# Altium integrated library TI Data Converters Analog to Digital Converter.IntLib: 2198 symbols (part 35 of 164)
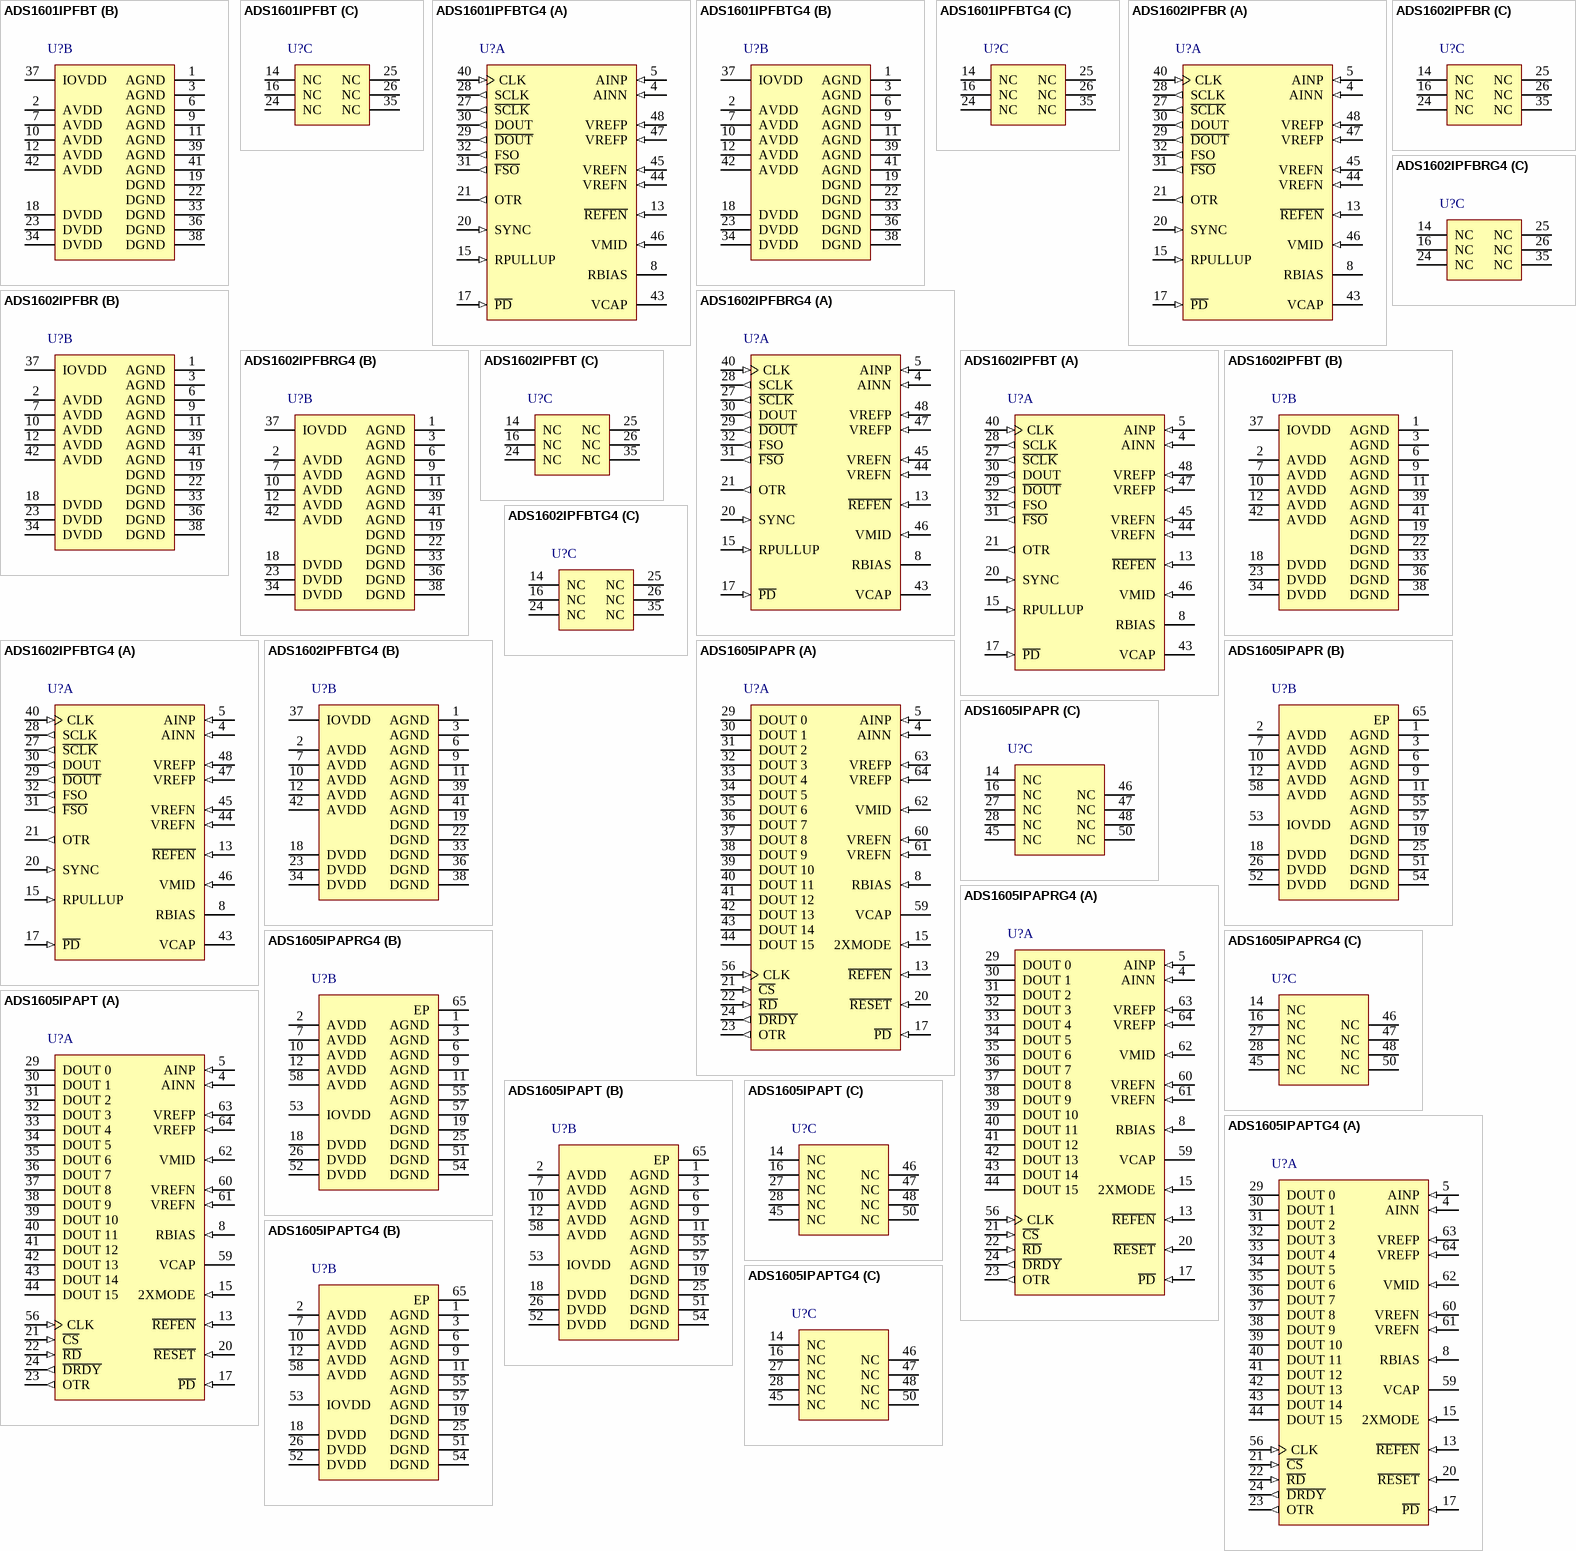
[diagram p160: symbols ADS1601IPFBT to ADS1605IPAPTG4]

## ADS1605IPAPT
designator U?
16-Bit, 5 MSPS Delta-Sigma, ADC, -40 to 85 degC, 64-pin QFP (PAP64), Green (RoHS & no Sb/Br); Manufacturer: Texas Instruments; PartNumber: ADS1605IPAPT; # Input Channels: 1; Analog Voltage AV/DD(Max)(V): 5.25; Analog Voltage AV/DD(Min)(V): 4.75; Digital Supply(Min)(V): 2.7; Interface: Parallel CMOS; Resolution(Bits): 16; Sample Rate (max)(SPS): 5M; SFDR(dB): 102; SINAD(dB): 84; SubFamily: Precision ADC (<=10MSPS); DatasheetVersion: SBAS274H; PackageVersion: 4147702/C, 08/2003; PackageReference: PAP64-5900X5900TP; PackageDescription: 64-Pin PowerPAD(TM) Plastic Quad Flatpack, Body 10 x 10 mm, Pitch 0.5 mm; Supplier 1: Digi-Key; Supplier Part Number 1: ADS825EG4-ND; Architecture: Delta-Sigma; Digital Supply(Max)(V): 5.25; Eco-Plan: Green (RoHS & no Sb/Br); SNR(dB): 84; Mounting Technology: Surface Mount; Code_JEDEC: MS-026; ComponentLink1Description: Manufacturer URL; ComponentLink1URL: http://www.ti.com/; ComponentLink2Description: Datasheet; ComponentLink2URL: http://www.ti.com/general/docs/lit/getliterature.tsp?genericPartNumber=ADS1605&fileType=pdf; ComponentLink3Description: Package Specification; ComponentLink3URL: http://www.ti.com/lit/ml/mpqf071b/mpqf071b.pdf
footprint TI-PAP64-5900X5900TP_N (QFP, 64-Leads, Body 10x10mm, Pitch 0.5mm, Thermal Pad 6.5x6.5mm, IPC Medium Density)
footprint TI-PAP64-5900X5900TP_L (QFP, 64-Leads, Body 10x10mm, Pitch 0.5mm, Thermal Pad 6.5x6.5mm, IPC High Density)
footprint TI-PAP64-5900X5900TP_M (QFP, 64-Leads, Body 10x10mm, Pitch 0.5mm, Thermal Pad 6.5x6.5mm, IPC Low Density)
part A pins: 4 AINN (in) "Negative analog input", 5 AINP (in) "Positive analog input", 8 RBIAS (in) "Terminal for external analog bias setting resistor", 13 ~{REFEN} (in) "Internal reference enable. Internal pull-down resistor of 170kohm to DGND.", 15 2XMODE (in) "Digital filter decimation rate. Internal pull-down resistor of 170kohm to DGND.", 17 ~{PD} (in) "Power down all circuitry. Internal pull-up resistor of 170kohm to DGND.", 20 ~{RESET} (in) "Reset digital filter", 21 ~{CS} (in) "Chip select", 22 ~{RD} (in) "Read enable", 23 OTR (out) "Analog inputs out of range", 24 ~{DRDY} (out) "Data ready on falling edge", 29 DOUT 0 (hiz) "Data output. DOUT[15] is the MSB and DOUT[0] is the LSB.", 30 DOUT 1 (hiz) "Data output. DOUT[15] is the MSB and DOUT[0] is the LSB.", 31 DOUT 2 (hiz) "Data output. DOUT[15] is the MSB and DOUT[0] is the LSB.", 32 DOUT 3 (hiz) "Data output. DOUT[15] is the MSB and DOUT[0] is the LSB.", 33 DOUT 4 (hiz) "Data output. DOUT[15] is the MSB and DOUT[0] is the LSB.", 34 DOUT 5 (hiz) "Data output. DOUT[15] is the MSB and DOUT[0] is the LSB.", 35 DOUT 6 (hiz) "Data output. DOUT[15] is the MSB and DOUT[0] is the LSB.", 36 DOUT 7 (hiz) "Data output. DOUT[15] is the MSB and DOUT[0] is the LSB.", 37 DOUT 8 (hiz) "Data output. DOUT[15] is the MSB and DOUT[0] is the LSB.", 38 DOUT 9 (hiz) "Data output. DOUT[15] is the MSB and DOUT[0] is the LSB.", 39 DOUT 10 (hiz) "Data output. DOUT[15] is the MSB and DOUT[0] is the LSB.", 40 DOUT 11 (hiz) "Data output. DOUT[15] is the MSB and DOUT[0] is the LSB.", 41 DOUT 12 (hiz) "Data output. DOUT[15] is the MSB and DOUT[0] is the LSB.", 42 DOUT 13 (hiz) "Data output. DOUT[15] is the MSB and DOUT[0] is the LSB.", 43 DOUT 14 (hiz) "Data output. DOUT[15] is the MSB and DOUT[0] is the LSB.", 44 DOUT 15 (hiz) "Data output. DOUT[15] is the MSB and DOUT[0] is the LSB.", 56 CLK (in) "Clock input", 59 VCAP "Terminal for external bypass capacitor connection to internal bias voltage", 60 VREFN (in) "Negative reference voltage", 61 VREFN (in) "Negative reference voltage", 62 VMID (in) "Midpoint voltage", 63 VREFP (in) "Positive reference voltage", 64 VREFP (in) "Positive reference voltage"
part B pins: 1 AGND (power) "Analog ground", 2 AVDD (power) "Analog supply", 3 AGND (power) "Analog ground", 6 AGND (power) "Analog ground", 7 AVDD (power) "Analog supply", 9 AGND (power) "Analog ground", 10 AVDD (power) "Analog supply", 11 AGND (power) "Analog ground", 12 AVDD (power) "Analog supply", 18 DVDD (power) "Digital supply", 19 DGND (power) "Digital ground", 25 DGND (power) "Digital ground", 26 DVDD (power) "Digital supply", 51 DGND (power) "Digital ground", 52 DVDD (power) "Digital supply", 53 IOVDD (power) "Digital I/O supply", 54 DGND (power) "Digital ground", 55 AGND (power) "Analog ground", 57 AGND (power) "Analog ground", 58 AVDD (power) "Analog supply", 65 EP (power)
part C pins: 14 NC "These terminals are not connected within the ADS1605/6 and must be left unconnected.", 16 NC "These terminals are not connected within the ADS1605/6 and must be left unconnected.", 27 NC "These terminals are not connected within the ADS1605/6 and must be left unconnected.", 28 NC "These terminals are not connected within the ADS1605/6 and must be left unconnected.", 45 NC "These terminals are not connected within the ADS1605/6 and must be left unconnected.", 46 NC "These terminals must be left disconnected on the ADS1605.", 47 NC "These terminals must be left disconnected on the ADS1605.", 48 NC "These terminals must be left disconnected on the ADS1605.", 50 NC "These terminals are not connected within the ADS1605/6 and must be left unconnected."

## ADS1605IPAPTG4
designator U?
16-Bit, 5 MSPS Delta-Sigma, ADC, -40 to 85 degC, 64-pin QFP (PAP64), Green (RoHS & no Sb/Br); Manufacturer: Texas Instruments; PartNumber: ADS1605IPAPTG4; # Input Channels: 1; Analog Voltage AV/DD(Max)(V): 5.25; Analog Voltage AV/DD(Min)(V): 4.75; Digital Supply(Min)(V): 2.7; Interface: Parallel CMOS; Resolution(Bits): 16; Sample Rate (max)(SPS): 5M; SFDR(dB): 102; SINAD(dB): 84; SubFamily: Precision ADC (<=10MSPS); DatasheetVersion: SBAS274H; PackageVersion: 4147702/C, 08/2003; PackageReference: PAP64-5900X5900TP; PackageDescription: 64-Pin PowerPAD(TM) Plastic Quad Flatpack, Body 10 x 10 mm, Pitch 0.5 mm; Supplier 1: Digi-Key; Supplier Part Number 1: 296-18673-5-ND; Architecture: Delta-Sigma; Digital Supply(Max)(V): 5.25; Eco-Plan: Green (RoHS & no Sb/Br); SNR(dB): 84; Mounting Technology: Surface Mount; Code_JEDEC: MS-026; ComponentLink1Description: Manufacturer URL; ComponentLink1URL: http://www.ti.com/; ComponentLink2Description: Datasheet; ComponentLink2URL: http://www.ti.com/general/docs/lit/getliterature.tsp?genericPartNumber=ADS1605&fileType=pdf; ComponentLink3Description: Package Specification; ComponentLink3URL: http://www.ti.com/lit/ml/mpqf071b/mpqf071b.pdf
footprint TI-PAP64-5900X5900TP_N (QFP, 64-Leads, Body 10x10mm, Pitch 0.5mm, Thermal Pad 6.5x6.5mm, IPC Medium Density)
footprint TI-PAP64-5900X5900TP_L (QFP, 64-Leads, Body 10x10mm, Pitch 0.5mm, Thermal Pad 6.5x6.5mm, IPC High Density)
footprint TI-PAP64-5900X5900TP_M (QFP, 64-Leads, Body 10x10mm, Pitch 0.5mm, Thermal Pad 6.5x6.5mm, IPC Low Density)
part A pins: 4 AINN (in) "Negative analog input", 5 AINP (in) "Positive analog input", 8 RBIAS (in) "Terminal for external analog bias setting resistor", 13 ~{REFEN} (in) "Internal reference enable. Internal pull-down resistor of 170kohm to DGND.", 15 2XMODE (in) "Digital filter decimation rate. Internal pull-down resistor of 170kohm to DGND.", 17 ~{PD} (in) "Power down all circuitry. Internal pull-up resistor of 170kohm to DGND.", 20 ~{RESET} (in) "Reset digital filter", 21 ~{CS} (in) "Chip select", 22 ~{RD} (in) "Read enable", 23 OTR (out) "Analog inputs out of range", 24 ~{DRDY} (out) "Data ready on falling edge", 29 DOUT 0 (hiz) "Data output. DOUT[15] is the MSB and DOUT[0] is the LSB.", 30 DOUT 1 (hiz) "Data output. DOUT[15] is the MSB and DOUT[0] is the LSB.", 31 DOUT 2 (hiz) "Data output. DOUT[15] is the MSB and DOUT[0] is the LSB.", 32 DOUT 3 (hiz) "Data output. DOUT[15] is the MSB and DOUT[0] is the LSB.", 33 DOUT 4 (hiz) "Data output. DOUT[15] is the MSB and DOUT[0] is the LSB.", 34 DOUT 5 (hiz) "Data output. DOUT[15] is the MSB and DOUT[0] is the LSB.", 35 DOUT 6 (hiz) "Data output. DOUT[15] is the MSB and DOUT[0] is the LSB.", 36 DOUT 7 (hiz) "Data output. DOUT[15] is the MSB and DOUT[0] is the LSB.", 37 DOUT 8 (hiz) "Data output. DOUT[15] is the MSB and DOUT[0] is the LSB.", 38 DOUT 9 (hiz) "Data output. DOUT[15] is the MSB and DOUT[0] is the LSB.", 39 DOUT 10 (hiz) "Data output. DOUT[15] is the MSB and DOUT[0] is the LSB.", 40 DOUT 11 (hiz) "Data output. DOUT[15] is the MSB and DOUT[0] is the LSB.", 41 DOUT 12 (hiz) "Data output. DOUT[15] is the MSB and DOUT[0] is the LSB.", 42 DOUT 13 (hiz) "Data output. DOUT[15] is the MSB and DOUT[0] is the LSB.", 43 DOUT 14 (hiz) "Data output. DOUT[15] is the MSB and DOUT[0] is the LSB.", 44 DOUT 15 (hiz) "Data output. DOUT[15] is the MSB and DOUT[0] is the LSB.", 56 CLK (in) "Clock input", 59 VCAP "Terminal for external bypass capacitor connection to internal bias voltage", 60 VREFN (in) "Negative reference voltage", 61 VREFN (in) "Negative reference voltage", 62 VMID (in) "Midpoint voltage", 63 VREFP (in) "Positive reference voltage", 64 VREFP (in) "Positive reference voltage"
part B pins: 1 AGND (power) "Analog ground", 2 AVDD (power) "Analog supply", 3 AGND (power) "Analog ground", 6 AGND (power) "Analog ground", 7 AVDD (power) "Analog supply", 9 AGND (power) "Analog ground", 10 AVDD (power) "Analog supply", 11 AGND (power) "Analog ground", 12 AVDD (power) "Analog supply", 18 DVDD (power) "Digital supply", 19 DGND (power) "Digital ground", 25 DGND (power) "Digital ground", 26 DVDD (power) "Digital supply", 51 DGND (power) "Digital ground", 52 DVDD (power) "Digital supply", 53 IOVDD (power) "Digital I/O supply", 54 DGND (power) "Digital ground", 55 AGND (power) "Analog ground", 57 AGND (power) "Analog ground", 58 AVDD (power) "Analog supply", 65 EP (power)
part C pins: 14 NC "These terminals are not connected within the ADS1605/6 and must be left unconnected.", 16 NC "These terminals are not connected within the ADS1605/6 and must be left unconnected.", 27 NC "These terminals are not connected within the ADS1605/6 and must be left unconnected.", 28 NC "These terminals are not connected within the ADS1605/6 and must be left unconnected.", 45 NC "These terminals are not connected within the ADS1605/6 and must be left unconnected.", 46 NC "These terminals must be left disconnected on the ADS1605.", 47 NC "These terminals must be left disconnected on the ADS1605.", 48 NC "These terminals must be left disconnected on the ADS1605.", 50 NC "These terminals are not connected within the ADS1605/6 and must be left unconnected."

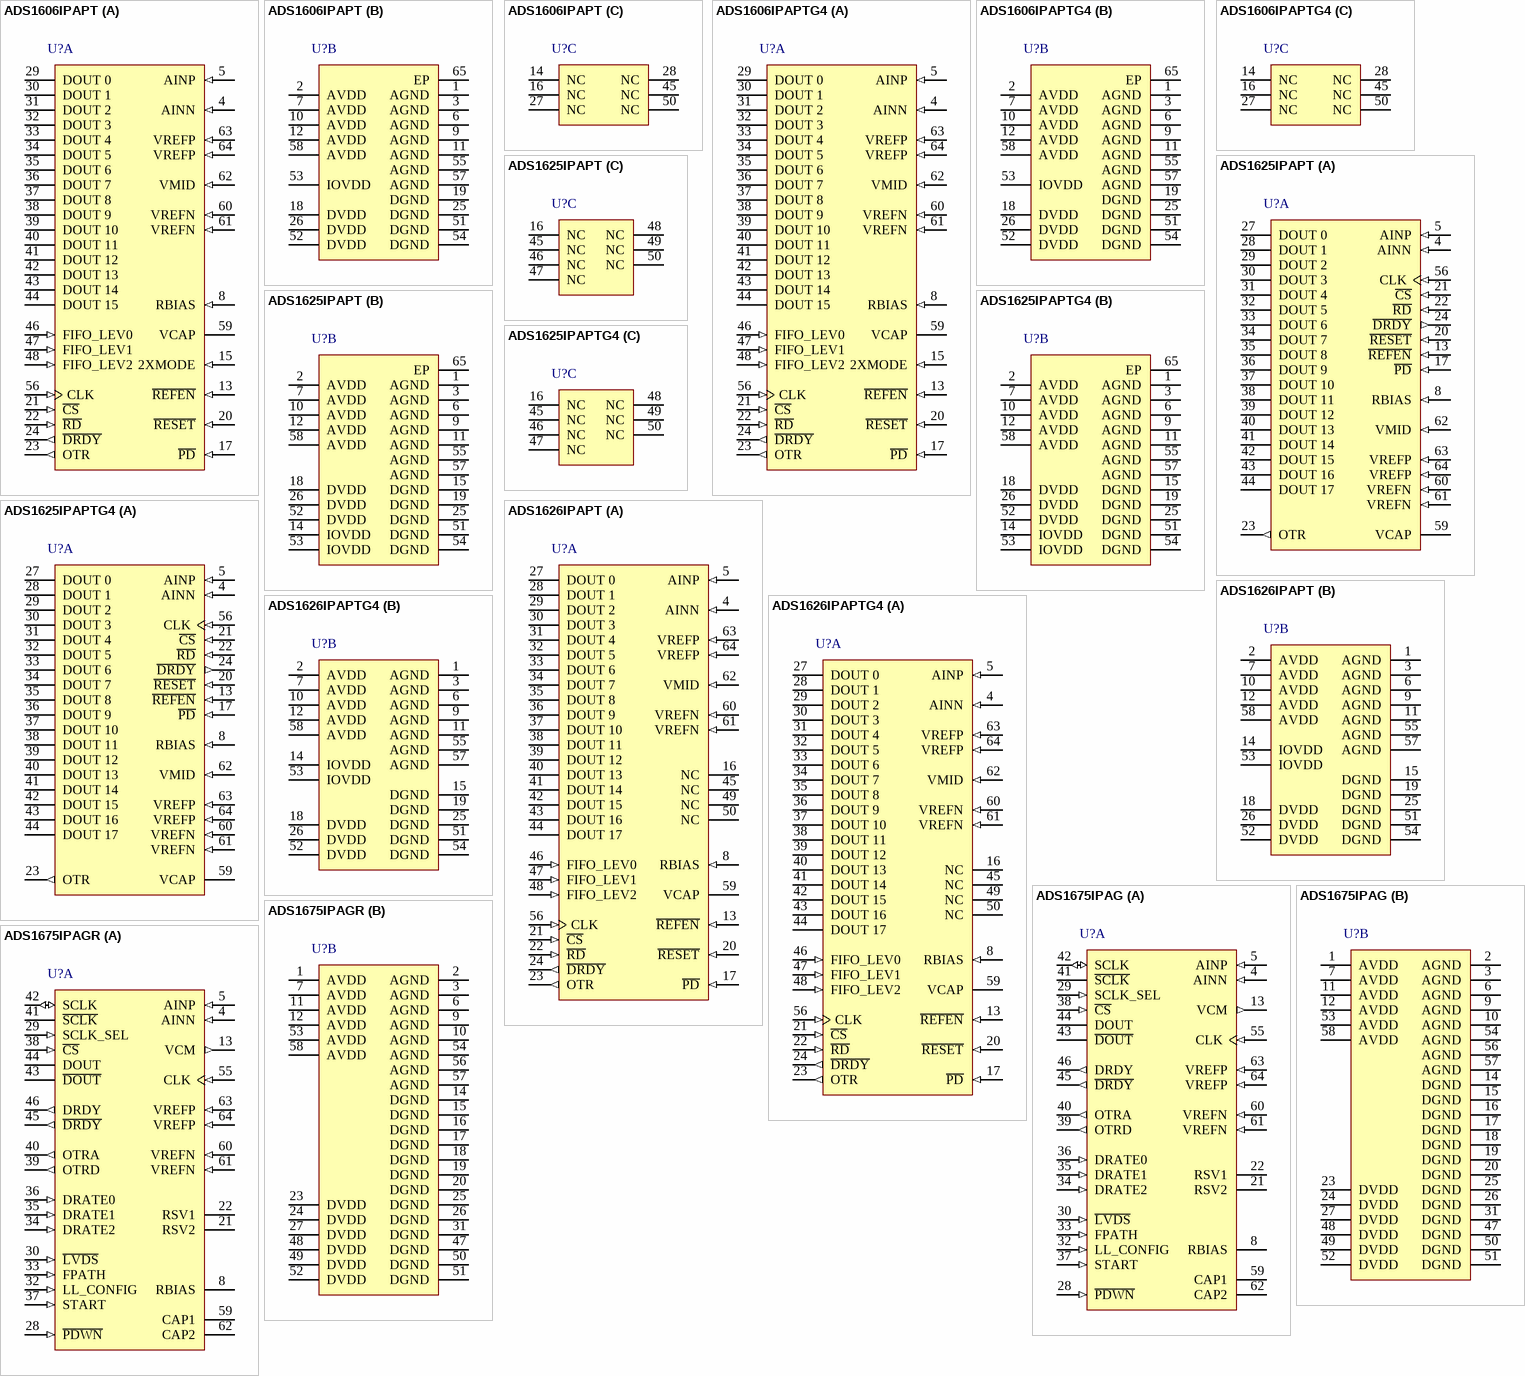
[diagram p30: symbols ADS1606IPAPT to ADS1675IPAGR]

## ADS1606IPAPT
designator U?
16-Bit, 5 MSPS Single Channel Delta-Sigma ADC with FIFO, -40 to 85 degC, 64-pin QFP (PAP64), Green (RoHS & no Sb/Br); Manufacturer: Texas Instruments; PartNumber: ADS1606IPAPT; # Input Channels: 1; Analog Voltage AV/DD(Max)(V): 5.25; Analog Voltage AV/DD(Min)(V): 4.75; Digital Supply(Min)(V): 2.7; Interface: Parallel CMOS; Resolution(Bits): 16; Sample Rate (max)(SPS): 5M; SFDR(dB): 96; SINAD(dB): 86; SNR(dB): 88; SubFamily: Precision ADC (<=10MSPS); DatasheetVersion: SBAS274H; PackageVersion: 4147702/C, 08/2003; PackageReference: PAP64-5900X5900TP; PackageDescription: 64-Pin PowerPAD(TM) Plastic Quad Flatpack, Body 10 x 10 mm, Pitch 0.5 mm; Supplier 1: Digi-Key; Supplier Part Number 1: ADS1234IPWG4-ND; Architecture: Delta-Sigma; Digital Supply(Max)(V): 5.25; Eco-Plan: Green (RoHS & no Sb/Br); Mounting Technology: Surface Mount; Code_JEDEC: MS-026; ComponentLink1Description: Manufacturer URL; ComponentLink1URL: http://www.ti.com/; ComponentLink2Description: Datasheet; ComponentLink2URL: http://www.ti.com/general/docs/lit/getliterature.tsp?genericPartNumber=ADS1606&fileType=pdf; ComponentLink3Description: Package Specification; ComponentLink3URL: http://www.ti.com/lit/ml/mpqf071b/mpqf071b.pdf
footprint TI-PAP64-5900X5900TP_N (QFP, 64-Leads, Body 10x10mm, Pitch 0.5mm, Thermal Pad 6.5x6.5mm, IPC Medium Density)
footprint TI-PAP64-5900X5900TP_L (QFP, 64-Leads, Body 10x10mm, Pitch 0.5mm, Thermal Pad 6.5x6.5mm, IPC High Density)
footprint TI-PAP64-5900X5900TP_M (QFP, 64-Leads, Body 10x10mm, Pitch 0.5mm, Thermal Pad 6.5x6.5mm, IPC Low Density)
part A pins: 4 AINN (in) "Negative analog input", 5 AINP (in) "Positive analog input", 8 RBIAS (in) "Terminal for external analog bias setting resistor", 13 ~{REFEN} (in) "Internal reference enable. Internal pull-down resistor of 170kohm to DGND.", 15 2XMODE (in) "Digital filter decimation rate. Internal pull-down resistor of 170kohm to DGND.", 17 ~{PD} (in) "Power down all circuitry. Internal pull-up resistor of 170kohm to DGND.", 20 ~{RESET} (in) "Reset digital filter", 21 ~{CS} (in) "Chip select", 22 ~{RD} (in) "Read enable", 23 OTR (out) "Analog inputs out of range", 24 ~{DRDY} (out) "Data ready on falling edge", 29 DOUT 0 (hiz) "Data output. DOUT[15] is the MSB and DOUT[0] is the LSB.", 30 DOUT 1 (hiz) "Data output. DOUT[15] is the MSB and DOUT[0] is the LSB.", 31 DOUT 2 (hiz) "Data output. DOUT[15] is the MSB and DOUT[0] is the LSB.", 32 DOUT 3 (hiz) "Data output. DOUT[15] is the MSB and DOUT[0] is the LSB.", 33 DOUT 4 (hiz) "Data output. DOUT[15] is the MSB and DOUT[0] is the LSB.", 34 DOUT 5 (hiz) "Data output. DOUT[15] is the MSB and DOUT[0] is the LSB.", 35 DOUT 6 (hiz) "Data output. DOUT[15] is the MSB and DOUT[0] is the LSB.", 36 DOUT 7 (hiz) "Data output. DOUT[15] is the MSB and DOUT[0] is the LSB.", 37 DOUT 8 (hiz) "Data output. DOUT[15] is the MSB and DOUT[0] is the LSB.", 38 DOUT 9 (hiz) "Data output. DOUT[15] is the MSB and DOUT[0] is the LSB.", 39 DOUT 10 (hiz) "Data output. DOUT[15] is the MSB and DOUT[0] is the LSB.", 40 DOUT 11 (hiz) "Data output. DOUT[15] is the MSB and DOUT[0] is the LSB.", 41 DOUT 12 (hiz) "Data output. DOUT[15] is the MSB and DOUT[0] is the LSB.", 42 DOUT 13 (hiz) "Data output. DOUT[15] is the MSB and DOUT[0] is the LSB.", 43 DOUT 14 (hiz) "Data output. DOUT[15] is the MSB and DOUT[0] is the LSB.", 44 DOUT 15 (hiz) "Data output. DOUT[15] is the MSB and DOUT[0] is the LSB.", 46 FIFO_LEV0 (in) "FIFO level (for the ADS1606 only). FIFO_LEV[2] is MSB.", 47 FIFO_LEV1 (in) "FIFO level (for the ADS1606 only). FIFO_LEV[2] is MSB.", 48 FIFO_LEV2 (in) "FIFO level (for the ADS1606 only). FIFO_LEV[2] is MSB.", 56 CLK (in) "Clock input", 59 VCAP "Terminal for external bypass capacitor connection to internal bias voltage", 60 VREFN (in) "Negative reference voltage", 61 VREFN (in) "Negative reference voltage", 62 VMID (in) "Midpoint voltage", 63 VREFP (in) "Positive reference voltage", 64 VREFP (in) "Positive reference voltage"
part B pins: 1 AGND (power) "Analog ground", 2 AVDD (power) "Analog supply", 3 AGND (power) "Analog ground", 6 AGND (power) "Analog ground", 7 AVDD (power) "Analog supply", 9 AGND (power) "Analog ground", 10 AVDD (power) "Analog supply", 11 AGND (power) "Analog ground", 12 AVDD (power) "Analog supply", 18 DVDD (power) "Digital supply", 19 DGND (power) "Digital ground", 25 DGND (power) "Digital ground", 26 DVDD (power) "Digital supply", 51 DGND (power) "Digital ground", 52 DVDD (power) "Digital supply", 53 IOVDD (power) "Digital I/O supply", 54 DGND (power) "Digital ground", 55 AGND (power) "Analog ground", 57 AGND (power) "Analog ground", 58 AVDD (power) "Analog supply", 65 EP (power)
part C pins: 14 NC "These terminals are not connected within the ADS1605/6 and must be left unconnected.", 16 NC "These terminals are not connected within the ADS1605/6 and must be left unconnected.", 27 NC "These terminals are not connected within the ADS1605/6 and must be left unconnected.", 28 NC "These terminals are not connected within the ADS1605/6 and must be left unconnected.", 45 NC "These terminals are not connected within the ADS1605/6 and must be left unconnected.", 50 NC "These terminals are not connected within the ADS1605/6 and must be left unconnected."

## ADS1606IPAPTG4
designator U?
16-Bit, 5 MSPS Single Channel Delta-Sigma ADC with FIFO, -40 to 85 degC, 64-pin QFP (PAP64), Green (RoHS & no Sb/Br); Manufacturer: Texas Instruments; PartNumber: ADS1606IPAPTG4; # Input Channels: 1; Analog Voltage AV/DD(Max)(V): 5.25; Analog Voltage AV/DD(Min)(V): 4.75; Digital Supply(Max)(V): 3.3; Digital Supply(Min)(V): 2.7; Interface: Parallel CMOS; Resolution(Bits): 16; Sample Rate (max)(SPS): 5M; SFDR(dB): 96; SINAD(dB): 86; SNR(dB): 88; SubFamily: Precision ADC (<=10MSPS); DatasheetVersion: SBAS274H; PackageVersion: 4147702/C, 08/2003; PackageReference: PAP64-5900X5900TP; PackageDescription: 64-Pin PowerPAD(TM) Plastic Quad Flatpack, Body 10 x 10 mm, Pitch 0.5 mm; Supplier 1: Digi-Key; Supplier Part Number 1: ADS1234IPWR-ND; Architecture: Delta-Sigma; Eco-Plan: Green (RoHS & no Sb/Br); Mounting Technology: Surface Mount; Code_JEDEC: MS-026; ComponentLink1Description: Manufacturer URL; ComponentLink1URL: http://www.ti.com/; ComponentLink2Description: Datasheet; ComponentLink2URL: http://www.ti.com/general/docs/lit/getliterature.tsp?genericPartNumber=ADS1606&fileType=pdf; ComponentLink3Description: Package Specification; ComponentLink3URL: http://www.ti.com/lit/ml/mpqf071b/mpqf071b.pdf
footprint TI-PAP64-5900X5900TP_N (QFP, 64-Leads, Body 10x10mm, Pitch 0.5mm, Thermal Pad 6.5x6.5mm, IPC Medium Density)
footprint TI-PAP64-5900X5900TP_L (QFP, 64-Leads, Body 10x10mm, Pitch 0.5mm, Thermal Pad 6.5x6.5mm, IPC High Density)
footprint TI-PAP64-5900X5900TP_M (QFP, 64-Leads, Body 10x10mm, Pitch 0.5mm, Thermal Pad 6.5x6.5mm, IPC Low Density)
part A pins: 4 AINN (in) "Negative analog input", 5 AINP (in) "Positive analog input", 8 RBIAS (in) "Terminal for external analog bias setting resistor", 13 ~{REFEN} (in) "Internal reference enable. Internal pull-down resistor of 170kohm to DGND.", 15 2XMODE (in) "Digital filter decimation rate. Internal pull-down resistor of 170kohm to DGND.", 17 ~{PD} (in) "Power down all circuitry. Internal pull-up resistor of 170kohm to DGND.", 20 ~{RESET} (in) "Reset digital filter", 21 ~{CS} (in) "Chip select", 22 ~{RD} (in) "Read enable", 23 OTR (out) "Analog inputs out of range", 24 ~{DRDY} (out) "Data ready on falling edge", 29 DOUT 0 (hiz) "Data output. DOUT[15] is the MSB and DOUT[0] is the LSB.", 30 DOUT 1 (hiz) "Data output. DOUT[15] is the MSB and DOUT[0] is the LSB.", 31 DOUT 2 (hiz) "Data output. DOUT[15] is the MSB and DOUT[0] is the LSB.", 32 DOUT 3 (hiz) "Data output. DOUT[15] is the MSB and DOUT[0] is the LSB.", 33 DOUT 4 (hiz) "Data output. DOUT[15] is the MSB and DOUT[0] is the LSB.", 34 DOUT 5 (hiz) "Data output. DOUT[15] is the MSB and DOUT[0] is the LSB.", 35 DOUT 6 (hiz) "Data output. DOUT[15] is the MSB and DOUT[0] is the LSB.", 36 DOUT 7 (hiz) "Data output. DOUT[15] is the MSB and DOUT[0] is the LSB.", 37 DOUT 8 (hiz) "Data output. DOUT[15] is the MSB and DOUT[0] is the LSB.", 38 DOUT 9 (hiz) "Data output. DOUT[15] is the MSB and DOUT[0] is the LSB.", 39 DOUT 10 (hiz) "Data output. DOUT[15] is the MSB and DOUT[0] is the LSB.", 40 DOUT 11 (hiz) "Data output. DOUT[15] is the MSB and DOUT[0] is the LSB.", 41 DOUT 12 (hiz) "Data output. DOUT[15] is the MSB and DOUT[0] is the LSB.", 42 DOUT 13 (hiz) "Data output. DOUT[15] is the MSB and DOUT[0] is the LSB.", 43 DOUT 14 (hiz) "Data output. DOUT[15] is the MSB and DOUT[0] is the LSB.", 44 DOUT 15 (hiz) "Data output. DOUT[15] is the MSB and DOUT[0] is the LSB.", 46 FIFO_LEV0 (in) "FIFO level (for the ADS1606 only). FIFO_LEV[2] is MSB.", 47 FIFO_LEV1 (in) "FIFO level (for the ADS1606 only). FIFO_LEV[2] is MSB.", 48 FIFO_LEV2 (in) "FIFO level (for the ADS1606 only). FIFO_LEV[2] is MSB.", 56 CLK (in) "Clock input", 59 VCAP "Terminal for external bypass capacitor connection to internal bias voltage", 60 VREFN (in) "Negative reference voltage", 61 VREFN (in) "Negative reference voltage", 62 VMID (in) "Midpoint voltage", 63 VREFP (in) "Positive reference voltage", 64 VREFP (in) "Positive reference voltage"
part B pins: 1 AGND (power) "Analog ground", 2 AVDD (power) "Analog supply", 3 AGND (power) "Analog ground", 6 AGND (power) "Analog ground", 7 AVDD (power) "Analog supply", 9 AGND (power) "Analog ground", 10 AVDD (power) "Analog supply", 11 AGND (power) "Analog ground", 12 AVDD (power) "Analog supply", 18 DVDD (power) "Digital supply", 19 DGND (power) "Digital ground", 25 DGND (power) "Digital ground", 26 DVDD (power) "Digital supply", 51 DGND (power) "Digital ground", 52 DVDD (power) "Digital supply", 53 IOVDD (power) "Digital I/O supply", 54 DGND (power) "Digital ground", 55 AGND (power) "Analog ground", 57 AGND (power) "Analog ground", 58 AVDD (power) "Analog supply", 65 EP (power)
part C pins: 14 NC "These terminals are not connected within the ADS1605/6 and must be left unconnected.", 16 NC "These terminals are not connected within the ADS1605/6 and must be left unconnected.", 27 NC "These terminals are not connected within the ADS1605/6 and must be left unconnected.", 28 NC "These terminals are not connected within the ADS1605/6 and must be left unconnected.", 45 NC "These terminals are not connected within the ADS1605/6 and must be left unconnected.", 50 NC "These terminals are not connected within the ADS1605/6 and must be left unconnected."

## ADS1625IPAPT
designator U?
18-Bit, 1.25 MSPS Single Channel Delta-Sigma ADC, -40 to 85 degC, 64-pin QFP (PAP64), Green (RoHS & no Sb/Br); Manufacturer: Texas Instruments; PartNumber: ADS1625IPAPT; # Input Channels: 1; Analog Voltage AV/DD(Max)(V): 5.25; Analog Voltage AV/DD(Min)(V): 4.75; Digital Supply(Min)(V): 2.7; INL(Max)(+/-LSB): 3.5; Interface: Parallel CMOS; Resolution(Bits): 18; Sample Rate (max)(SPS): 1.25M; SFDR(dB): 104; SINAD(dB): 92; SNR(dB): 93; SubFamily: Precision ADC (<=10MSPS); DatasheetVersion: SBAS280E; PackageVersion: 4147702/C, 08/2003; PackageReference: PAP64-5900X5900TP; PackageDescription: 64-Pin PowerPAD(TM) Plastic Quad Flatpack, Body 10 x 10 mm, Pitch 0.5 mm; Supplier 1: Digi-Key; Supplier Part Number 1: ADS1234IPWRG4-ND; Architecture: Delta-Sigma; Digital Supply(Max)(V): 5.25; Eco-Plan: Green (RoHS & no Sb/Br); Mounting Technology: Surface Mount; Code_JEDEC: MS-026; ComponentLink1Description: Manufacturer URL; ComponentLink1URL: http://www.ti.com/; ComponentLink2Description: Datasheet; ComponentLink2URL: http://www.ti.com/general/docs/lit/getliterature.tsp?genericPartNumber=ADS1625&fileType=pdf; ComponentLink3Description: Package Specification; ComponentLink3URL: http://www.ti.com/lit/ml/mpqf071b/mpqf071b.pdf
footprint TI-PAP64-5900X5900TP_N (QFP, 64-Leads, Body 10x10mm, Pitch 0.5mm, Thermal Pad 6.5x6.5mm, IPC Medium Density)
footprint TI-PAP64-5900X5900TP_L (QFP, 64-Leads, Body 10x10mm, Pitch 0.5mm, Thermal Pad 6.5x6.5mm, IPC High Density)
footprint TI-PAP64-5900X5900TP_M (QFP, 64-Leads, Body 10x10mm, Pitch 0.5mm, Thermal Pad 6.5x6.5mm, IPC Low Density)
part A pins: 4 AINN (in) "Negative analog input", 5 AINP (in) "Positive analog input", 8 RBIAS (in) "Terminal for external analog bias setting resistor", 13 ~{REFEN} (in) "Internal reference enable. Internal pull-down resistor of 170kohm to DGND.", 17 ~{PD} (in) "Power down all circuitry. Internal pull-up resistor of 170kohm to DGND.", 20 ~{RESET} (in) "Reset digital filter", 21 ~{CS} (in) "Chip select", 22 ~{RD} (in) "Read enable", 23 OTR (out) "Active when analog inputs are out of range", 24 ~{DRDY} (out) "Data ready on falling edge", 27 DOUT 0 (hiz) "Data output. DOUT[17] is the MSB and DOUT[0] is the LSB.", 28 DOUT 1 (hiz) "Data output. DOUT[17] is the MSB and DOUT[0] is the LSB.", 29 DOUT 2 (hiz) "Data output. DOUT[17] is the MSB and DOUT[0] is the LSB.", 30 DOUT 3 (hiz) "Data output. DOUT[17] is the MSB and DOUT[0] is the LSB.", 31 DOUT 4 (hiz) "Data output. DOUT[17] is the MSB and DOUT[0] is the LSB.", 32 DOUT 5 (hiz) "Data output. DOUT[17] is the MSB and DOUT[0] is the LSB.", 33 DOUT 6 (hiz) "Data output. DOUT[17] is the MSB and DOUT[0] is the LSB.", 34 DOUT 7 (hiz) "Data output. DOUT[17] is the MSB and DOUT[0] is the LSB.", 35 DOUT 8 (hiz) "Data output. DOUT[17] is the MSB and DOUT[0] is the LSB.", 36 DOUT 9 (hiz) "Data output. DOUT[17] is the MSB and DOUT[0] is the LSB.", 37 DOUT 10 (hiz) "Data output. DOUT[17] is the MSB and DOUT[0] is the LSB.", 38 DOUT 11 (hiz) "Data output. DOUT[17] is the MSB and DOUT[0] is the LSB.", 39 DOUT 12 (hiz) "Data output. DOUT[17] is the MSB and DOUT[0] is the LSB.", 40 DOUT 13 (hiz) "Data output. DOUT[17] is the MSB and DOUT[0] is the LSB.", 41 DOUT 14 (hiz) "Data output. DOUT[17] is the MSB and DOUT[0] is the LSB.", 42 DOUT 15 (hiz) "Data output. DOUT[17] is the MSB and DOUT[0] is the LSB.", 43 DOUT 16 (hiz) "Data output. DOUT[17] is the MSB and DOUT[0] is the LSB.", 44 DOUT 17 (hiz) "Data output. DOUT[17] is the MSB and DOUT[0] is the LSB.", 56 CLK (in) "Clock input", 59 VCAP "Terminal for external bypass capacitor connection to internal bias voltage", 60 VREFN (in) "Negative reference voltage", 61 VREFN (in) "Negative reference voltage", 62 VMID (in) "Midpoint voltage", 63 VREFP (in) "Positive reference voltage", 64 VREFP (in) "Positive reference voltage"
part B pins: 1 AGND (power) "Analog ground", 2 AVDD (power) "Analog supply", 3 AGND (power) "Analog ground", 6 AGND (power) "Analog ground", 7 AVDD (power) "Analog supply", 9 AGND (power) "Analog ground", 10 AVDD (power) "Analog supply", 11 AGND (power) "Analog ground", 12 AVDD (power) "Analog supply", 14 IOVDD (power) "Digital I/O supply", 15 DGND (power) "Digital ground", 18 DVDD (power) "Digital supply", 19 DGND (power) "Digital ground", 25 DGND (power) "Digital ground", 26 DVDD (power) "Digital supply", 51 DGND (power) "Digital ground", 52 DVDD (power) "Digital supply", 53 IOVDD (power) "Digital I/O supply", 54 DGND (power) "Digital ground", 55 AGND (power) "Analog ground", 57 AGND (power) "Analog ground", 58 AVDD (power) "Analog supply", 65 EP (power)
part C pins: 16 NC "Must be left unconnected", 45 NC "Must be left unconnected", 46 NC "These terminals must be left unconnected on the ADS1625.", 47 NC "These terminals must be left unconnected on the ADS1625.", 48 NC "These terminals must be left unconnected on the ADS1625.", 49 NC "Must be left unconnected", 50 NC "Must be left unconnected"

## ADS1625IPAPTG4
designator U?
18-Bit, 1.25 MSPS Single Channel Delta-Sigma ADC, -40 to 85 degC, 64-pin QFP (PAP64), Green (RoHS & no Sb/Br); Manufacturer: Texas Instruments; PartNumber: ADS1625IPAPTG4; # Input Channels: 1; Analog Voltage AV/DD(Max)(V): 5.25; Analog Voltage AV/DD(Min)(V): 4.75; Digital Supply(Min)(V): 2.7; INL(Max)(+/-LSB): 3.5; Interface: Parallel CMOS; Resolution(Bits): 18; Sample Rate (max)(SPS): 1.25M; SFDR(dB): 104; SINAD(dB): 92; SNR(dB): 93; SubFamily: Precision ADC (<=10MSPS); DatasheetVersion: SBAS280E; PackageVersion: 4147702/C, 08/2003; PackageReference: PAP64-5900X5900TP; PackageDescription: 64-Pin PowerPAD(TM) Plastic Quad Flatpack, Body 10 x 10 mm, Pitch 0.5 mm; Supplier 1: Digi-Key; Supplier Part Number 1: TLV5535IPWRG4Q1-ND; Architecture: Delta-Sigma; Digital Supply(Max)(V): 5.25; Eco-Plan: Green (RoHS & no Sb/Br); Mounting Technology: Surface Mount; Code_JEDEC: MS-026; ComponentLink1Description: Manufacturer URL; ComponentLink1URL: http://www.ti.com/; ComponentLink2Description: Datasheet; ComponentLink2URL: http://www.ti.com/general/docs/lit/getliterature.tsp?genericPartNumber=ADS1625&fileType=pdf; ComponentLink3Description: Package Specification; ComponentLink3URL: http://www.ti.com/lit/ml/mpqf071b/mpqf071b.pdf
footprint TI-PAP64-5900X5900TP_N (QFP, 64-Leads, Body 10x10mm, Pitch 0.5mm, Thermal Pad 6.5x6.5mm, IPC Medium Density)
footprint TI-PAP64-5900X5900TP_L (QFP, 64-Leads, Body 10x10mm, Pitch 0.5mm, Thermal Pad 6.5x6.5mm, IPC High Density)
footprint TI-PAP64-5900X5900TP_M (QFP, 64-Leads, Body 10x10mm, Pitch 0.5mm, Thermal Pad 6.5x6.5mm, IPC Low Density)
part A pins: 4 AINN (in) "Negative analog input", 5 AINP (in) "Positive analog input", 8 RBIAS (in) "Terminal for external analog bias setting resistor", 13 ~{REFEN} (in) "Internal reference enable. Internal pull-down resistor of 170kohm to DGND.", 17 ~{PD} (in) "Power down all circuitry. Internal pull-up resistor of 170kohm to DGND.", 20 ~{RESET} (in) "Reset digital filter", 21 ~{CS} (in) "Chip select", 22 ~{RD} (in) "Read enable", 23 OTR (out) "Active when analog inputs are out of range", 24 ~{DRDY} (out) "Data ready on falling edge", 27 DOUT 0 (hiz) "Data output. DOUT[17] is the MSB and DOUT[0] is the LSB.", 28 DOUT 1 (hiz) "Data output. DOUT[17] is the MSB and DOUT[0] is the LSB.", 29 DOUT 2 (hiz) "Data output. DOUT[17] is the MSB and DOUT[0] is the LSB.", 30 DOUT 3 (hiz) "Data output. DOUT[17] is the MSB and DOUT[0] is the LSB.", 31 DOUT 4 (hiz) "Data output. DOUT[17] is the MSB and DOUT[0] is the LSB.", 32 DOUT 5 (hiz) "Data output. DOUT[17] is the MSB and DOUT[0] is the LSB.", 33 DOUT 6 (hiz) "Data output. DOUT[17] is the MSB and DOUT[0] is the LSB.", 34 DOUT 7 (hiz) "Data output. DOUT[17] is the MSB and DOUT[0] is the LSB.", 35 DOUT 8 (hiz) "Data output. DOUT[17] is the MSB and DOUT[0] is the LSB.", 36 DOUT 9 (hiz) "Data output. DOUT[17] is the MSB and DOUT[0] is the LSB.", 37 DOUT 10 (hiz) "Data output. DOUT[17] is the MSB and DOUT[0] is the LSB.", 38 DOUT 11 (hiz) "Data output. DOUT[17] is the MSB and DOUT[0] is the LSB.", 39 DOUT 12 (hiz) "Data output. DOUT[17] is the MSB and DOUT[0] is the LSB.", 40 DOUT 13 (hiz) "Data output. DOUT[17] is the MSB and DOUT[0] is the LSB.", 41 DOUT 14 (hiz) "Data output. DOUT[17] is the MSB and DOUT[0] is the LSB.", 42 DOUT 15 (hiz) "Data output. DOUT[17] is the MSB and DOUT[0] is the LSB.", 43 DOUT 16 (hiz) "Data output. DOUT[17] is the MSB and DOUT[0] is the LSB.", 44 DOUT 17 (hiz) "Data output. DOUT[17] is the MSB and DOUT[0] is the LSB.", 56 CLK (in) "Clock input", 59 VCAP "Terminal for external bypass capacitor connection to internal bias voltage", 60 VREFN (in) "Negative reference voltage", 61 VREFN (in) "Negative reference voltage", 62 VMID (in) "Midpoint voltage", 63 VREFP (in) "Positive reference voltage", 64 VREFP (in) "Positive reference voltage"
part B pins: 1 AGND (power) "Analog ground", 2 AVDD (power) "Analog supply", 3 AGND (power) "Analog ground", 6 AGND (power) "Analog ground", 7 AVDD (power) "Analog supply", 9 AGND (power) "Analog ground", 10 AVDD (power) "Analog supply", 11 AGND (power) "Analog ground", 12 AVDD (power) "Analog supply", 14 IOVDD (power) "Digital I/O supply", 15 DGND (power) "Digital ground", 18 DVDD (power) "Digital supply", 19 DGND (power) "Digital ground", 25 DGND (power) "Digital ground", 26 DVDD (power) "Digital supply", 51 DGND (power) "Digital ground", 52 DVDD (power) "Digital supply", 53 IOVDD (power) "Digital I/O supply", 54 DGND (power) "Digital ground", 55 AGND (power) "Analog ground", 57 AGND (power) "Analog ground", 58 AVDD (power) "Analog supply", 65 EP (power)
part C pins: 16 NC "Must be left unconnected", 45 NC "Must be left unconnected", 46 NC "These terminals must be left unconnected on the ADS1625.", 47 NC "These terminals must be left unconnected on the ADS1625.", 48 NC "These terminals must be left unconnected on the ADS1625.", 49 NC "Must be left unconnected", 50 NC "Must be left unconnected"

## ADS1626IPAPT
designator U?
18-Bit, 1.25 MSPS Single Channel Delta-Sigma ADC with FIFO, -40 to 105 degC, 64-pin QFP (PAP64), Green (RoHS & no Sb/Br); Manufacturer: Texas Instruments; PartNumber: ADS1626IPAPT; # Input Channels: 1; Analog Voltage AV/DD(Max)(V): 5.25; Analog Voltage AV/DD(Min)(V): 4.75; Digital Supply(Min)(V): 2.7; INL(Max)(+/-LSB): 3.5; Interface: Parallel CMOS; Resolution(Bits): 18; Sample Rate (max)(SPS): 1.25M; SFDR(dB): 104; SINAD(dB): 92; SNR(dB): 93; SubFamily: Precision ADC (<=10MSPS); DatasheetVersion: SBAS280E; PackageVersion: 4147702/C, 08/2003; PackageReference: PAP64-5900X5900TP; PackageDescription: 64-Pin PowerPAD(TM) Plastic Quad Flatpack, Body 10 x 10 mm, Pitch 0.5 mm; Supplier 1: Digi-Key; Supplier Part Number 1: 296-34196-5-ND; Architecture: Delta-Sigma; Digital Supply(Max)(V): 5.25; Eco-Plan: Green (RoHS & no Sb/Br); Mounting Technology: Surface Mount; Code_JEDEC: MS-026; ComponentLink1Description: Manufacturer URL; ComponentLink1URL: http://www.ti.com/; ComponentLink2Description: Datasheet; ComponentLink2URL: http://www.ti.com/general/docs/lit/getliterature.tsp?genericPartNumber=ADS1626&fileType=pdf; ComponentLink3Description: Package Specification; ComponentLink3URL: http://www.ti.com/lit/ml/mpqf071b/mpqf071b.pdf
footprint TI-PAP64-5900X5900TP_N (QFP, 64-Leads, Body 10x10mm, Pitch 0.5mm, Thermal Pad 6.5x6.5mm, IPC Medium Density)
footprint TI-PAP64-5900X5900TP_L (QFP, 64-Leads, Body 10x10mm, Pitch 0.5mm, Thermal Pad 6.5x6.5mm, IPC High Density)
footprint TI-PAP64-5900X5900TP_M (QFP, 64-Leads, Body 10x10mm, Pitch 0.5mm, Thermal Pad 6.5x6.5mm, IPC Low Density)
part A pins: 4 AINN (in) "Negative analog input", 5 AINP (in) "Positive analog input", 8 RBIAS (in) "Terminal for external analog bias setting resistor", 13 ~{REFEN} (in) "Internal reference enable. Internal pull-down resistor of 170kohm to DGND.", 16 NC "Must be left unconnected", 17 ~{PD} (in) "Power down all circuitry. Internal pull-up resistor of 170kohm to DGND.", 20 ~{RESET} (in) "Reset digital filter", 21 ~{CS} (in) "Chip select", 22 ~{RD} (in) "Read enable", 23 OTR (out) "Active when analog inputs are out of range", 24 ~{DRDY} (out) "Data ready on falling edge", 27 DOUT 0 (hiz) "Data output. DOUT[17] is the MSB and DOUT[0] is the LSB.", 28 DOUT 1 (hiz) "Data output. DOUT[17] is the MSB and DOUT[0] is the LSB.", 29 DOUT 2 (hiz) "Data output. DOUT[17] is the MSB and DOUT[0] is the LSB.", 30 DOUT 3 (hiz) "Data output. DOUT[17] is the MSB and DOUT[0] is the LSB.", 31 DOUT 4 (hiz) "Data output. DOUT[17] is the MSB and DOUT[0] is the LSB.", 32 DOUT 5 (hiz) "Data output. DOUT[17] is the MSB and DOUT[0] is the LSB.", 33 DOUT 6 (hiz) "Data output. DOUT[17] is the MSB and DOUT[0] is the LSB.", 34 DOUT 7 (hiz) "Data output. DOUT[17] is the MSB and DOUT[0] is the LSB.", 35 DOUT 8 (hiz) "Data output. DOUT[17] is the MSB and DOUT[0] is the LSB.", 36 DOUT 9 (hiz) "Data output. DOUT[17] is the MSB and DOUT[0] is the LSB.", 37 DOUT 10 (hiz) "Data output. DOUT[17] is the MSB and DOUT[0] is the LSB.", 38 DOUT 11 (hiz) "Data output. DOUT[17] is the MSB and DOUT[0] is the LSB.", 39 DOUT 12 (hiz) "Data output. DOUT[17] is the MSB and DOUT[0] is the LSB.", 40 DOUT 13 (hiz) "Data output. DOUT[17] is the MSB and DOUT[0] is the LSB.", 41 DOUT 14 (hiz) "Data output. DOUT[17] is the MSB and DOUT[0] is the LSB.", 42 DOUT 15 (hiz) "Data output. DOUT[17] is the MSB and DOUT[0] is the LSB.", 43 DOUT 16 (hiz) "Data output. DOUT[17] is the MSB and DOUT[0] is the LSB.", 44 DOUT 17 (hiz) "Data output. DOUT[17] is the MSB and DOUT[0] is the LSB.", 45 NC "Must be left unconnected", 46 FIFO_LEV0 (in) "FIFO level (for the ADS1626 only). FIFO_LEV[2] is MSB.", 47 FIFO_LEV1 (in) "FIFO level (for the ADS1626 only). FIFO_LEV[2] is MSB.", 48 FIFO_LEV2 (in) "FIFO level (for the ADS1626 only). FIFO_LEV[2] is MSB.", 49 NC "Must be left unconnected", 50 NC "Must be left unconnected", 56 CLK (in) "Clock input", 59 VCAP "Terminal for external bypass capacitor connection to internal bias voltage", 60 VREFN (in) "Negative reference voltage", 61 VREFN (in) "Negative reference voltage", 62 VMID (in) "Midpoint voltage", 63 VREFP (in) "Positive reference voltage", 64 VREFP (in) "Positive reference voltage"
part B pins: 1 AGND (power) "Analog ground", 2 AVDD (power) "Analog supply", 3 AGND (power) "Analog ground", 6 AGND (power) "Analog ground", 7 AVDD (power) "Analog supply", 9 AGND (power) "Analog ground", 10 AVDD (power) "Analog supply", 11 AGND (power) "Analog ground", 12 AVDD (power) "Analog supply", 14 IOVDD (power) "Digital I/O supply", 15 DGND (power) "Digital ground", 18 DVDD (power) "Digital supply", 19 DGND (power) "Digital ground", 25 DGND (power) "Digital ground", 26 DVDD (power) "Digital supply", 51 DGND (power) "Digital ground", 52 DVDD (power) "Digital supply", 53 IOVDD (power) "Digital I/O supply", 54 DGND (power) "Digital ground", 55 AGND (power) "Analog ground", 57 AGND (power) "Analog ground", 58 AVDD (power) "Analog supply"

## ADS1626IPAPTG4
designator U?
18-Bit, 1.25 MSPS Single Channel Delta-Sigma ADC with FIFO, -40 to 105 degC, 64-pin QFP (PAP64), Green (RoHS & no Sb/Br); Manufacturer: Texas Instruments; PartNumber: ADS1626IPAPTG4; # Input Channels: 1; Analog Voltage AV/DD(Max)(V): 5.25; Analog Voltage AV/DD(Min)(V): 4.75; Digital Supply(Min)(V): 2.7; INL(Max)(+/-LSB): 3.5; Interface: Parallel CMOS; Resolution(Bits): 18; Sample Rate (max)(SPS): 1.25M; SFDR(dB): 104; SINAD(dB): 92; SNR(dB): 93; SubFamily: Precision ADC (<=10MSPS); DatasheetVersion: SBAS280E; PackageVersion: 4147702/C, 08/2003; PackageReference: PAP64-5900X5900TP; PackageDescription: 64-Pin PowerPAD(TM) Plastic Quad Flatpack, Body 10 x 10 mm, Pitch 0.5 mm; Supplier 1: Digi-Key; Supplier Part Number 1: THS1215CPWG4-ND; Architecture: Delta-Sigma; Digital Supply(Max)(V): 5.25; Eco-Plan: Green (RoHS & no Sb/Br); Mounting Technology: Surface Mount; Code_JEDEC: MS-026; ComponentLink1Description: Manufacturer URL; ComponentLink1URL: http://www.ti.com/; ComponentLink2Description: Datasheet; ComponentLink2URL: http://www.ti.com/general/docs/lit/getliterature.tsp?genericPartNumber=ADS1626&fileType=pdf; ComponentLink3Description: Package Specification; ComponentLink3URL: http://www.ti.com/lit/ml/mpqf071b/mpqf071b.pdf
footprint TI-PAP64-5900X5900TP_N (QFP, 64-Leads, Body 10x10mm, Pitch 0.5mm, Thermal Pad 6.5x6.5mm, IPC Medium Density)
footprint TI-PAP64-5900X5900TP_L (QFP, 64-Leads, Body 10x10mm, Pitch 0.5mm, Thermal Pad 6.5x6.5mm, IPC High Density)
footprint TI-PAP64-5900X5900TP_M (QFP, 64-Leads, Body 10x10mm, Pitch 0.5mm, Thermal Pad 6.5x6.5mm, IPC Low Density)
part A pins: 4 AINN (in) "Negative analog input", 5 AINP (in) "Positive analog input", 8 RBIAS (in) "Terminal for external analog bias setting resistor", 13 ~{REFEN} (in) "Internal reference enable. Internal pull-down resistor of 170kohm to DGND.", 16 NC "Must be left unconnected", 17 ~{PD} (in) "Power down all circuitry. Internal pull-up resistor of 170kohm to DGND.", 20 ~{RESET} (in) "Reset digital filter", 21 ~{CS} (in) "Chip select", 22 ~{RD} (in) "Read enable", 23 OTR (out) "Active when analog inputs are out of range", 24 ~{DRDY} (out) "Data ready on falling edge", 27 DOUT 0 (hiz) "Data output. DOUT[17] is the MSB and DOUT[0] is the LSB.", 28 DOUT 1 (hiz) "Data output. DOUT[17] is the MSB and DOUT[0] is the LSB.", 29 DOUT 2 (hiz) "Data output. DOUT[17] is the MSB and DOUT[0] is the LSB.", 30 DOUT 3 (hiz) "Data output. DOUT[17] is the MSB and DOUT[0] is the LSB.", 31 DOUT 4 (hiz) "Data output. DOUT[17] is the MSB and DOUT[0] is the LSB.", 32 DOUT 5 (hiz) "Data output. DOUT[17] is the MSB and DOUT[0] is the LSB.", 33 DOUT 6 (hiz) "Data output. DOUT[17] is the MSB and DOUT[0] is the LSB.", 34 DOUT 7 (hiz) "Data output. DOUT[17] is the MSB and DOUT[0] is the LSB.", 35 DOUT 8 (hiz) "Data output. DOUT[17] is the MSB and DOUT[0] is the LSB.", 36 DOUT 9 (hiz) "Data output. DOUT[17] is the MSB and DOUT[0] is the LSB.", 37 DOUT 10 (hiz) "Data output. DOUT[17] is the MSB and DOUT[0] is the LSB.", 38 DOUT 11 (hiz) "Data output. DOUT[17] is the MSB and DOUT[0] is the LSB.", 39 DOUT 12 (hiz) "Data output. DOUT[17] is the MSB and DOUT[0] is the LSB.", 40 DOUT 13 (hiz) "Data output. DOUT[17] is the MSB and DOUT[0] is the LSB.", 41 DOUT 14 (hiz) "Data output. DOUT[17] is the MSB and DOUT[0] is the LSB.", 42 DOUT 15 (hiz) "Data output. DOUT[17] is the MSB and DOUT[0] is the LSB.", 43 DOUT 16 (hiz) "Data output. DOUT[17] is the MSB and DOUT[0] is the LSB.", 44 DOUT 17 (hiz) "Data output. DOUT[17] is the MSB and DOUT[0] is the LSB.", 45 NC "Must be left unconnected", 46 FIFO_LEV0 (in) "FIFO level (for the ADS1626 only). FIFO_LEV[2] is MSB.", 47 FIFO_LEV1 (in) "FIFO level (for the ADS1626 only). FIFO_LEV[2] is MSB.", 48 FIFO_LEV2 (in) "FIFO level (for the ADS1626 only). FIFO_LEV[2] is MSB.", 49 NC "Must be left unconnected", 50 NC "Must be left unconnected", 56 CLK (in) "Clock input", 59 VCAP "Terminal for external bypass capacitor connection to internal bias voltage", 60 VREFN (in) "Negative reference voltage", 61 VREFN (in) "Negative reference voltage", 62 VMID (in) "Midpoint voltage", 63 VREFP (in) "Positive reference voltage", 64 VREFP (in) "Positive reference voltage"
part B pins: 1 AGND (power) "Analog ground", 2 AVDD (power) "Analog supply", 3 AGND (power) "Analog ground", 6 AGND (power) "Analog ground", 7 AVDD (power) "Analog supply", 9 AGND (power) "Analog ground", 10 AVDD (power) "Analog supply", 11 AGND (power) "Analog ground", 12 AVDD (power) "Analog supply", 14 IOVDD (power) "Digital I/O supply", 15 DGND (power) "Digital ground", 18 DVDD (power) "Digital supply", 19 DGND (power) "Digital ground", 25 DGND (power) "Digital ground", 26 DVDD (power) "Digital supply", 51 DGND (power) "Digital ground", 52 DVDD (power) "Digital supply", 53 IOVDD (power) "Digital I/O supply", 54 DGND (power) "Digital ground", 55 AGND (power) "Analog ground", 57 AGND (power) "Analog ground", 58 AVDD (power) "Analog supply"

## ADS1675IPAG
designator U?
4 MSPS, 24-Bit ADC, -40 to 85 degC, 64-pin QFP (PAG64), Green (RoHS & no Sb/Br); Manufacturer: Texas Instruments; PartNumber: ADS1675IPAG; # Input Channels: 1; Analog Voltage AV/DD(Max)(V): 5.25; Analog Voltage AV/DD(Min)(V): 4.75; Architecture: Delta-Sigma; Digital Supply(Max)(V): 3.15; Digital Supply(Min)(V): 2.85; Interface: Parallel LVDS, Serial SPI; Resolution(Bits): 24; Sample Rate (max)(SPS): 4M; SFDR(dB): 120; SNR(dB): 92; SubFamily: Precision ADC (<=10MSPS); DatasheetVersion: SBAS416D; PackageVersion: 4040282/C, 11/1996; PackageReference: PAG64; PackageDescription: 64-Pin Plastic Flat Pack, Body 10 x 10 mm, Pitch 0.50 mm; Supplier 1: Digi-Key; Supplier Part Number 1: 296-10011-5-ND; Eco-Plan: Green (RoHS & no Sb/Br); Mounting Technology: Surface Mount; Code_JEDEC: MS-026; ComponentLink1Description: Manufacturer URL; ComponentLink1URL: http://www.ti.com/; ComponentLink2Description: Datasheet; ComponentLink2URL: http://www.ti.com/general/docs/lit/getliterature.tsp?genericPartNumber=ADS1675&fileType=pdf; ComponentLink3Description: Package Specification; ComponentLink3URL: http://www.ti.com/lit/ml/mtqf006a/mtqf006a.pdf
footprint TI-PAG64_N (QFP, 64-Leads, Body 10x10mm, Pitch 0.5mm, IPC Medium Density)
footprint TI-PAG64_L (QFP, 64-Leads, Body 10x10mm, Pitch 0.5mm, IPC High Density)
footprint TI-PAG64_M (QFP, 64-Leads, Body 10x10mm, Pitch 0.5mm, IPC Low Density)
part A pins: 4 AINN (in) "Negative analog input", 5 AINP (in) "Positive analog input", 8 RBIAS "Analog bias setting resistor", 13 VCM (out) "Terminal for external bypass capacitor connection to internal common-mode voltage", 21 RSV2 "Short pin to digital ground", 22 RSV1 "Short pin to digital supply", 28 ~{PDWN} (in) "Power-down control, active low", 29 SCLK_SEL (in) "Shift-clock source select. If SCLK_SEL = '0', then SCLK is internally generated. If SCLK_SEL = '1', then SCLK must be externally generated.", 30 ~{LVDS} (in) "Serial interface select. If L\V\D\S\ = '0', then interface is LVDS-compatible. If L\V\D\S\ = '1', then interface is CMOS-compatible.", 32 LL_CONFIG (in) "Configure Low-Latency digital filter. If LL_CONFIG = '0', then single-cycle settling is selected. If LL_CONFIG = '1', then fast-response is selected.", 33 FPATH (in) "Digital filter path selection. If FPATH = '0', then path is Wide Bandwidth. If FPATH = '1', then path is Low-Latency.", 34 DRATE2 (in) "Data rate selection", 35 DRATE1 (in) "Data rate selection", 36 DRATE0 (in) "Data rate selection", 37 START (in) "Start convert, reset, and synchronization control input", 38 ~{CS} (in) "Chip select; active low", 39 OTRD (out) "Digital filter out-of-range indicator", 40 OTRA (out) "Analog input out-of-range indicator", 41 ~{SCLK} (hiz) "Negative shift clock output. If SCLK_SEL = '0', then S\C\L\K\ is the complementary shift clock output. If SCLK_SEL = '1', then S\C\L\K\ always output is 3-state.", 42 SCLK (io) "Positive shift clock output. If SCLK_SEL = '0', then SCLK is an output. If SCLK_SEL = '1', then SCLK is an input.", 43 ~{DOUT} (hiz) "Negative LVDS serial data output", 44 DOUT (hiz) "Positive LVDS serial data output", 45 ~{DRDY} (out) "Negative data ready output", 46 DRDY (out) "Positive data ready output", 55 CLK (in) "Master clock input", 59 CAP1 "Terminal for 1uF external bypass capacitor", 60 VREFN (in) "Negative reference voltage. Short to analog ground", 61 VREFN (in) "Negative reference voltage. Short to analog ground", 62 CAP2 "Terminal for 1uF external bypass capacitor", 63 VREFP (in) "Positive reference voltage", 64 VREFP (in) "Positive reference voltage"
part B pins: 1 AVDD (power) "Analog supply", 2 AGND (power) "Analog ground", 3 AGND (power) "Analog ground", 6 AGND (power) "Analog ground", 7 AVDD (power) "Analog supply", 9 AGND (power) "Analog ground", 10 AGND (power) "Analog ground", 11 AVDD (power) "Analog supply", 12 AVDD (power) "Analog supply", 14 DGND (power) "Digital ground", 15 DGND (power) "Digital ground", 16 DGND (power) "Digital ground", 17 DGND (power) "Digital ground", 18 DGND (power) "Digital ground", 19 DGND (power) "Digital ground", 20 DGND (power) "Digital ground", 23 DVDD (power) "Digital supply", 24 DVDD (power) "Digital supply", 25 DGND (power) "Digital ground", 26 DGND (power) "Digital ground", 27 DVDD (power) "Digital supply", 31 DGND (power) "Digital ground", 47 DGND (power) "Digital ground", 48 DVDD (power) "Digital supply", 49 DVDD (power) "Digital supply", 50 DGND (power) "Digital ground", 51 DGND (power) "Digital ground", 52 DVDD (power) "Digital supply", 53 AVDD (power) "Analog supply", 54 AGND (power) "Analog ground", 56 AGND (power) "Analog ground", 57 AGND (power) "Analog ground", 58 AVDD (power) "Analog supply"